# Altium integrated library PESD0402-140.IntLib: 1 symbol
Pins are listed as number, name and electrical type; pins without a type are passive.

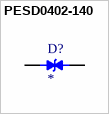
[diagram p0: symbol PESD0402-140]

## PESD0402-140
designator D?
40V Clamp - Ipp Tvs Diode Surface Mount 0402; MF: Littelfuse Inc.; MP: PESD0402-140; SnapEDA_Link: https://www.snapeda.com/parts/PESD0402-140/Littelfuse/view-part/?ref=snap; Package: 0402 Littelfuse Inc.; Value: *; Check_prices: https://www.snapeda.com/parts/PESD0402-140/Littelfuse/view-part/?ref=eda
footprint DIO_PESD0402-140
pins: 1, 2